# Altium footprint library BGA8C50P2X4_90X189X50.PcbLib: 1 footprints
Each footprint in its own frame and in the unit in brackets; x right, y up, seen from the top. Pads: shape width x height; smd on the part's side, far side on the other; paste and mask are expansions set on the pad; w line width, h text height; cw(c..) or ccw(c..) is an arc to the next point about the centre after c.
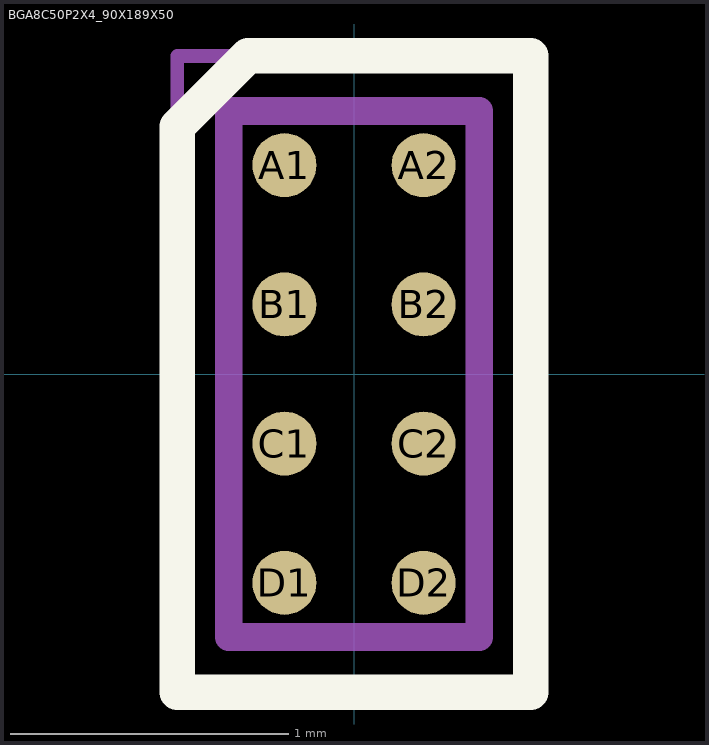
[diagram p0: the footprint, top view; thin cyan lines are the x and y axes]

## BGA8C50P2X4_90X189X50 [mm] "BGA, 8-Leads, Body 0.90x1.89mmx0.50mm, Pitch 0.50mm"
height 0.5
pads (8):
  round 0.23 smd: A1(-0.25,0.75) A2(0.25,0.75) B1(-0.25,0.25) B2(0.25,0.25) C1(-0.25,-0.25) C2(0.25,-0.25) D1(-0.25,-0.75) D2(0.25,-0.75)
Top Overlay:
  lines w0.127: -0.635,-1.143 0.635,-1.143 0.635,1.143 -0.381,1.143 -0.635,0.889 -0.635,-1.143
Mechanical 13:
  lines w0.1: -0.45,-0.945 0.45,-0.945 0.45,0.945 -0.45,0.945 -0.45,-0.945
Mechanical 15:
  lines w0.05: -0.635,-1.143 0.635,-1.143 0.635,1.143 -0.635,1.143 -0.635,-1.143
3D body: height 0.45, standoff -0.02, extent -0.459,-0.959 0.459,0.96